# Altium schematic symbol library AQY280.SchLib: 1 symbol
Pins are listed as number, name and electrical type; pins without a type are passive.

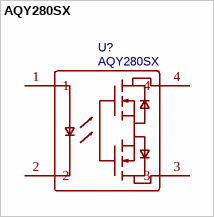
[diagram p0: symbol AQY280SX]

## AQY280SX
designator U?
MOS输出固态继电器; Manufacturer: PANASONIC(松下); Contributor: LCSC; Supplier: LCSC; Supplier Part: C425101; Manufacturer Part: AQY280SX; JLCPCB Part Class: Extended Part; spicePre: U; spiceSymbolName: AQY280SX
footprint SOP-4_L4.3-W4.4-P2.54-LS6.8-TR
pins: 1, 2, 3, 4